# Altium integrated library Linear Technology PMIC-Switching Reg LTC1174-LTC3901.IntLib: 2647 symbols (part 103 of 310)
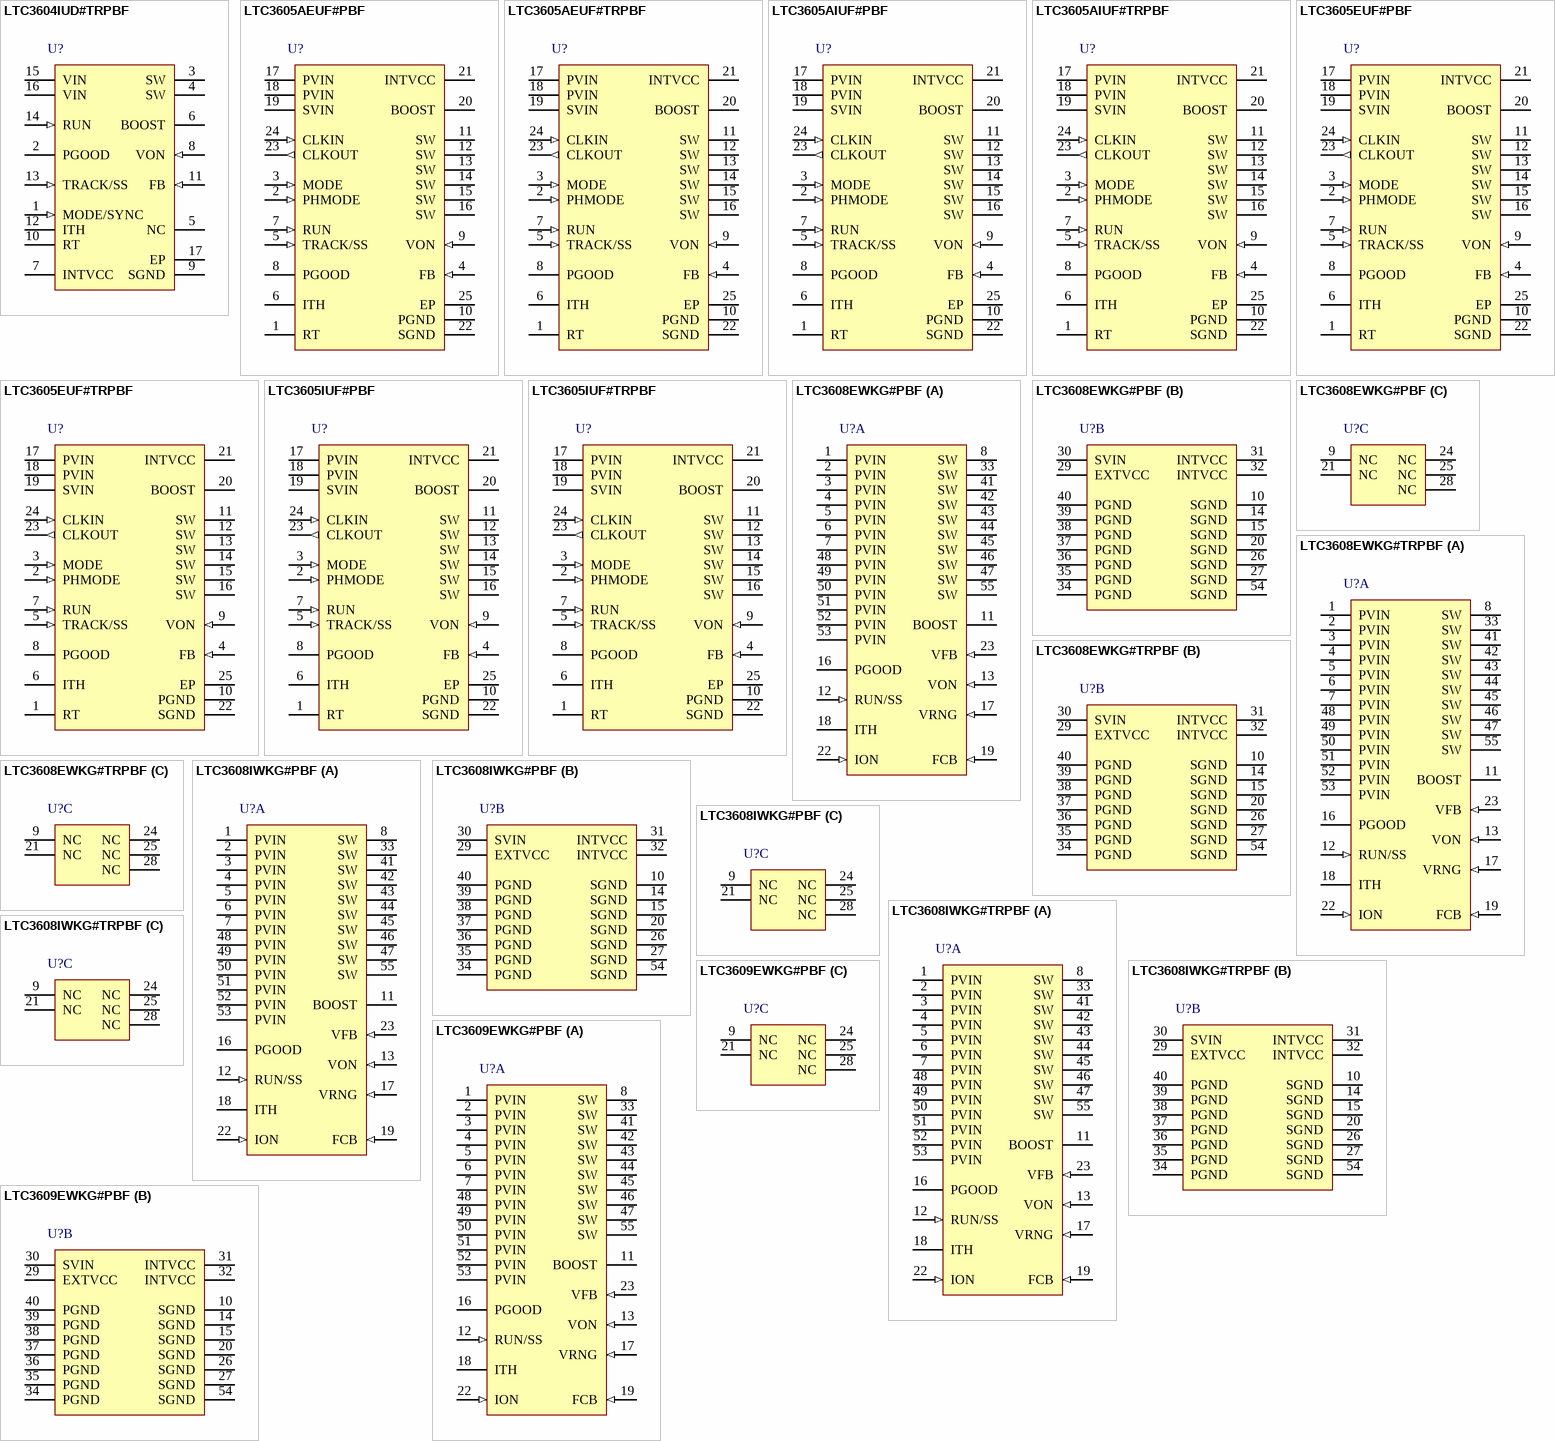
[diagram p174: symbols LTC3604IUD#TRPBF to LTC3609EWKG#PBF]

## LTC3605EUF#PBF
designator U?
5 A Synchronous Step-Down Regulator, 24-pin QFN (UF-24), -40 to 125 degC, Pb-Free; Manufacturer: Linear Technology; PartNumber: LTC3605EUF#PBF; Number of Outputs: 1; PackageReference: UF24; PackageDescription: 24-Pin Plastic QFN, Body 4 x 4 mm, Pitch 0.5 mm; Supplier 1: Digi-Key; Supplier Part Number 1: LTC3605EUF#PBF-ND; RoHS: TRUE; Code_JEDEC: MO-220
footprint LT-UF-24_N (QFN, 24-Leads, Body 4.1x4.1mm, Pitch 0.5mm, Thermal Pad 2.45x2.45mm, IPC Medium Density)
footprint LT-UF-24_L (QFN, 24-Leads, Body 4.1x4.1mm, Pitch 0.5mm, Thermal Pad 2.45x2.45mm, IPC High Density)
footprint LT-UF-24_M (QFN, 24-Leads, Body 4.1x4.1mm, Pitch 0.5mm, Thermal Pad 2.45x2.45mm, IPC Low Density)
pins: 1 RT "Oscillator Frequency Programming Pin. Connect an external resistor (between 200k to 40k) from RT to SGND to program the frequency from 800kHz to 4MHz. Since the synchronization range is +/-30% of set frequency, be sure that (See Datasheet)", 2 PHMODE (in) "Control Input to Phase Selector. Determines the phase relationship between internal oscillator and CLKOUT. Tie it to INTVCC for 2-phase operation, tie it to SGND for 3-phase operation, and tie it to INTVCC/2 for 4-phase (See Datasheet)", 3 MODE (in) "Operation Mode Select. Tie this pin to INTVCC to force continuous synchronous operation at all output loads. Tying it to SGND enables discontinuous mode operation at light loads. Tying this pin to INTVCC/2 shuts off the (See Datasheet)", 4 FB (in) "Output Feedback Voltage. Input to the error amplifier that compares the feedback voltage to the internal 0.6V reference voltage. This pin is normally connected to a resistive divider from the output voltage.", 5 TRACK/SS (in) "Output Tracking and Soft-Start Pin. Allows the user to control the rise time of the output voltage. Putting a voltage below 0.6V on this pin bypasses the internal reference input to the error amplifier, instead it servos the (See Datasheet)", 6 ITH "Error Amplifier Output and Switching Regulator Compensation Point. The current comparator’s trip threshold is linearly proportional to this voltage, whose normal range is from 0.3V to 1.8V. Tying this pin to INTVC(See Datasheet)", 7 RUN (in) "Run Control Input. Enables chip operation by tying RUN above 1.2V. Tying it below 1.1V shuts down the part.", 8 PGOOD (oc) "Output Power Good with Open-Drain Logic. PGOOD is pulled to ground when the voltage on the FB pin is not within +/-10% of the internal 0.6V reference.", 9 VON (in) "On-Time Voltage Input. Voltage trip point for the on-time comparator. Tying this pin to the output voltage makes the on-time proportional to VOUT and keeps the switching frequency constant at different VOUT. However, when (See Datasheet)", 10 PGND (power) "Power Ground. Return path of internal power MOSFETs. Connect this pin to the negative terminals of the input capacitor and output capacitor. The exposed pad must be soldered to the PCB ground for electrical contact and rated (See Datasheet)", 11 SW (power) "Switch Node Connection to External Inductor. Voltage swing of SW is from a diode voltage drop below ground to PVIN.", 12 SW (power) "Switch Node Connection to External Inductor. Voltage swing of SW is from a diode voltage drop below ground to PVIN.", 13 SW (power) "Switch Node Connection to External Inductor. Voltage swing of SW is from a diode voltage drop below ground to PVIN.", 14 SW (power) "Switch Node Connection to External Inductor. Voltage swing of SW is from a diode voltage drop below ground to PVIN.", 15 SW (power) "Switch Node Connection to External Inductor. Voltage swing of SW is from a diode voltage drop below ground to PVIN.", 16 SW (power) "Switch Node Connection to External Inductor. Voltage swing of SW is from a diode voltage drop below ground to PVIN.", 17 PVIN (power) "Power VIN. Input voltage to the onchip power MOSFETs.", 18 PVIN (power) "Power VIN. Input voltage to the onchip power MOSFETs.", 19 SVIN (power) "Signal VIN. Filtered input voltage to the on-chip 3.3V regulator. Connect a (1ohm to 10ohm) resistor between SVIN and PVIN and bypass to GND with a 0.1uF capacitor.", 20 BOOST "Boosted Floating Driver Supply for Internal Top Power MOSFET. The (+) terminal of the bootstrap capacitor connects here. This pin swings from a diode voltage drop below INTVCC up to PVIN + INTVCC.", 21 INTVCC (power) "Internal 3.3V Regulator Output. The internal power drivers and control circuits are powered from this voltage. Decouple this pin to power ground with a minimum of 1uF low ESR ceramic capacitor.", 22 SGND (power) "Signal Ground Connection.", 23 CLKOUT (out) "Output Clock Signal for PolyPhase Operation. The phase of CLKOUT with respect to CLKIN is determined by the state of the PHMODE pin. CLKOUT’s peak-to-peak amplitude is INTVCC to GND.", 24 CLKIN (in) "External Synchronization Input to Phase Detector. This pin is internally terminated to SGND with 20k. The phase-locked loop will force the top power NMOS’s turn on signal to be synchronized with the rising edge of th(See Datasheet)", 25 EP (power) "Power Ground. Return path of internal power MOSFETs. Connect this pin to the negative terminals of the input capacitor and output capacitor. The exposed pad must be soldered to the PCB ground for electrical contact and rated (See Datasheet)"

## LTC3605EUF#TRPBF
designator U?
15 V, 5 A Synchronous Step-Down Regulator, 24-pin QFN (UF-24), -40 to 125 degC, Pb-Free, Tape and Reel; Manufacturer: Linear Technology; PartNumber: LTC3605EUF#TRPBF; Number of Outputs: 1; PackageReference: UF24; PackageDescription: 24-Pin Plastic QFN, Body 4 x 4 mm, Pitch 0.5 mm; Supplier 1: Digi-Key; Supplier Part Number 1: LTC3605EUF#TRPBF-ND; RoHS: TRUE; Code_JEDEC: MO-220
footprint LT-UF-24_N (QFN, 24-Leads, Body 4.1x4.1mm, Pitch 0.5mm, Thermal Pad 2.45x2.45mm, IPC Medium Density)
footprint LT-UF-24_L (QFN, 24-Leads, Body 4.1x4.1mm, Pitch 0.5mm, Thermal Pad 2.45x2.45mm, IPC High Density)
footprint LT-UF-24_M (QFN, 24-Leads, Body 4.1x4.1mm, Pitch 0.5mm, Thermal Pad 2.45x2.45mm, IPC Low Density)
pins: 1 RT "Oscillator Frequency Programming Pin. Connect an external resistor (between 200k to 40k) from RT to SGND to program the frequency from 800kHz to 4MHz. Since the synchronization range is +/-30% of set frequency, be sure that (See Datasheet)", 2 PHMODE (in) "Control Input to Phase Selector. Determines the phase relationship between internal oscillator and CLKOUT. Tie it to INTVCC for 2-phase operation, tie it to SGND for 3-phase operation, and tie it to INTVCC/2 for 4-phase (See Datasheet)", 3 MODE (in) "Operation Mode Select. Tie this pin to INTVCC to force continuous synchronous operation at all output loads. Tying it to SGND enables discontinuous mode operation at light loads. Tying this pin to INTVCC/2 shuts off the (See Datasheet)", 4 FB (in) "Output Feedback Voltage. Input to the error amplifier that compares the feedback voltage to the internal 0.6V reference voltage. This pin is normally connected to a resistive divider from the output voltage.", 5 TRACK/SS (in) "Output Tracking and Soft-Start Pin. Allows the user to control the rise time of the output voltage. Putting a voltage below 0.6V on this pin bypasses the internal reference input to the error amplifier, instead it servos the (See Datasheet)", 6 ITH "Error Amplifier Output and Switching Regulator Compensation Point. The current comparator’s trip threshold is linearly proportional to this voltage, whose normal range is from 0.3V to 1.8V. Tying this pin to INTVC(See Datasheet)", 7 RUN (in) "Run Control Input. Enables chip operation by tying RUN above 1.2V. Tying it below 1.1V shuts down the part.", 8 PGOOD (oc) "Output Power Good with Open-Drain Logic. PGOOD is pulled to ground when the voltage on the FB pin is not within +/-10% of the internal 0.6V reference.", 9 VON (in) "On-Time Voltage Input. Voltage trip point for the on-time comparator. Tying this pin to the output voltage makes the on-time proportional to VOUT and keeps the switching frequency constant at different VOUT. However, when (See Datasheet)", 10 PGND (power) "Power Ground. Return path of internal power MOSFETs. Connect this pin to the negative terminals of the input capacitor and output capacitor. The exposed pad must be soldered to the PCB ground for electrical contact and rated (See Datasheet)", 11 SW (power) "Switch Node Connection to External Inductor. Voltage swing of SW is from a diode voltage drop below ground to PVIN.", 12 SW (power) "Switch Node Connection to External Inductor. Voltage swing of SW is from a diode voltage drop below ground to PVIN.", 13 SW (power) "Switch Node Connection to External Inductor. Voltage swing of SW is from a diode voltage drop below ground to PVIN.", 14 SW (power) "Switch Node Connection to External Inductor. Voltage swing of SW is from a diode voltage drop below ground to PVIN.", 15 SW (power) "Switch Node Connection to External Inductor. Voltage swing of SW is from a diode voltage drop below ground to PVIN.", 16 SW (power) "Switch Node Connection to External Inductor. Voltage swing of SW is from a diode voltage drop below ground to PVIN.", 17 PVIN (power) "Power VIN. Input voltage to the onchip power MOSFETs.", 18 PVIN (power) "Power VIN. Input voltage to the onchip power MOSFETs.", 19 SVIN (power) "Signal VIN. Filtered input voltage to the on-chip 3.3V regulator. Connect a (1ohm to 10ohm) resistor between SVIN and PVIN and bypass to GND with a 0.1uF capacitor.", 20 BOOST "Boosted Floating Driver Supply for Internal Top Power MOSFET. The (+) terminal of the bootstrap capacitor connects here. This pin swings from a diode voltage drop below INTVCC up to PVIN + INTVCC.", 21 INTVCC (power) "Internal 3.3V Regulator Output. The internal power drivers and control circuits are powered from this voltage. Decouple this pin to power ground with a minimum of 1uF low ESR ceramic capacitor.", 22 SGND (power) "Signal Ground Connection.", 23 CLKOUT (out) "Output Clock Signal for PolyPhase Operation. The phase of CLKOUT with respect to CLKIN is determined by the state of the PHMODE pin. CLKOUT’s peak-to-peak amplitude is INTVCC to GND.", 24 CLKIN (in) "External Synchronization Input to Phase Detector. This pin is internally terminated to SGND with 20k. The phase-locked loop will force the top power NMOS’s turn on signal to be synchronized with the rising edge of th(See Datasheet)", 25 EP (power) "Power Ground. Return path of internal power MOSFETs. Connect this pin to the negative terminals of the input capacitor and output capacitor. The exposed pad must be soldered to the PCB ground for electrical contact and rated (See Datasheet)"

## LTC3605IUF#PBF
designator U?
15 V, 5 A Synchronous Step-Down Regulator, 24-pin QFN (UF-24), -40 to 125 degC, Pb-Free; Manufacturer: Linear Technology; PartNumber: LTC3605IUF#PBF; Number of Outputs: 1; PackageReference: UF24; PackageDescription: 24-Pin Plastic QFN, Body 4 x 4 mm, Pitch 0.5 mm; Supplier 1: Digi-Key; Supplier Part Number 1: LTC3605IUF#PBF-ND; RoHS: TRUE; Code_JEDEC: MO-220
footprint LT-UF-24_N (QFN, 24-Leads, Body 4.1x4.1mm, Pitch 0.5mm, Thermal Pad 2.45x2.45mm, IPC Medium Density)
footprint LT-UF-24_L (QFN, 24-Leads, Body 4.1x4.1mm, Pitch 0.5mm, Thermal Pad 2.45x2.45mm, IPC High Density)
footprint LT-UF-24_M (QFN, 24-Leads, Body 4.1x4.1mm, Pitch 0.5mm, Thermal Pad 2.45x2.45mm, IPC Low Density)
pins: 1 RT "Oscillator Frequency Programming Pin. Connect an external resistor (between 200k to 40k) from RT to SGND to program the frequency from 800kHz to 4MHz. Since the synchronization range is +/-30% of set frequency, be sure that (See Datasheet)", 2 PHMODE (in) "Control Input to Phase Selector. Determines the phase relationship between internal oscillator and CLKOUT. Tie it to INTVCC for 2-phase operation, tie it to SGND for 3-phase operation, and tie it to INTVCC/2 for 4-phase (See Datasheet)", 3 MODE (in) "Operation Mode Select. Tie this pin to INTVCC to force continuous synchronous operation at all output loads. Tying it to SGND enables discontinuous mode operation at light loads. Tying this pin to INTVCC/2 shuts off the (See Datasheet)", 4 FB (in) "Output Feedback Voltage. Input to the error amplifier that compares the feedback voltage to the internal 0.6V reference voltage. This pin is normally connected to a resistive divider from the output voltage.", 5 TRACK/SS (in) "Output Tracking and Soft-Start Pin. Allows the user to control the rise time of the output voltage. Putting a voltage below 0.6V on this pin bypasses the internal reference input to the error amplifier, instead it servos the (See Datasheet)", 6 ITH "Error Amplifier Output and Switching Regulator Compensation Point. The current comparator’s trip threshold is linearly proportional to this voltage, whose normal range is from 0.3V to 1.8V. Tying this pin to INTVC(See Datasheet)", 7 RUN (in) "Run Control Input. Enables chip operation by tying RUN above 1.2V. Tying it below 1.1V shuts down the part.", 8 PGOOD (oc) "Output Power Good with Open-Drain Logic. PGOOD is pulled to ground when the voltage on the FB pin is not within +/-10% of the internal 0.6V reference.", 9 VON (in) "On-Time Voltage Input. Voltage trip point for the on-time comparator. Tying this pin to the output voltage makes the on-time proportional to VOUT and keeps the switching frequency constant at different VOUT. However, when (See Datasheet)", 10 PGND (power) "Power Ground. Return path of internal power MOSFETs. Connect this pin to the negative terminals of the input capacitor and output capacitor. The exposed pad must be soldered to the PCB ground for electrical contact and rated (See Datasheet)", 11 SW (power) "Switch Node Connection to External Inductor. Voltage swing of SW is from a diode voltage drop below ground to PVIN.", 12 SW (power) "Switch Node Connection to External Inductor. Voltage swing of SW is from a diode voltage drop below ground to PVIN.", 13 SW (power) "Switch Node Connection to External Inductor. Voltage swing of SW is from a diode voltage drop below ground to PVIN.", 14 SW (power) "Switch Node Connection to External Inductor. Voltage swing of SW is from a diode voltage drop below ground to PVIN.", 15 SW (power) "Switch Node Connection to External Inductor. Voltage swing of SW is from a diode voltage drop below ground to PVIN.", 16 SW (power) "Switch Node Connection to External Inductor. Voltage swing of SW is from a diode voltage drop below ground to PVIN.", 17 PVIN (power) "Power VIN. Input voltage to the onchip power MOSFETs.", 18 PVIN (power) "Power VIN. Input voltage to the onchip power MOSFETs.", 19 SVIN (power) "Signal VIN. Filtered input voltage to the on-chip 3.3V regulator. Connect a (1ohm to 10ohm) resistor between SVIN and PVIN and bypass to GND with a 0.1uF capacitor.", 20 BOOST "Boosted Floating Driver Supply for Internal Top Power MOSFET. The (+) terminal of the bootstrap capacitor connects here. This pin swings from a diode voltage drop below INTVCC up to PVIN + INTVCC.", 21 INTVCC (power) "Internal 3.3V Regulator Output. The internal power drivers and control circuits are powered from this voltage. Decouple this pin to power ground with a minimum of 1uF low ESR ceramic capacitor.", 22 SGND (power) "Signal Ground Connection.", 23 CLKOUT (out) "Output Clock Signal for PolyPhase Operation. The phase of CLKOUT with respect to CLKIN is determined by the state of the PHMODE pin. CLKOUT’s peak-to-peak amplitude is INTVCC to GND.", 24 CLKIN (in) "External Synchronization Input to Phase Detector. This pin is internally terminated to SGND with 20k. The phase-locked loop will force the top power NMOS’s turn on signal to be synchronized with the rising edge of th(See Datasheet)", 25 EP (power) "Power Ground. Return path of internal power MOSFETs. Connect this pin to the negative terminals of the input capacitor and output capacitor. The exposed pad must be soldered to the PCB ground for electrical contact and rated (See Datasheet)"

## LTC3605IUF#TRPBF
designator U?
15 V, 5 A Synchronous Step-Down Regulator, 24-pin QFN (UF-24), -40 to 125 degC, Pb-Free, Tape and Reel; Manufacturer: Linear Technology; PartNumber: LTC3605IUF#TRPBF; Number of Outputs: 1; PackageReference: UF24; PackageDescription: 24-Pin Plastic QFN, Body 4 x 4 mm, Pitch 0.5 mm; Supplier 1: Digi-Key; Supplier Part Number 1: LTC3605IUF#TRPBF-ND; RoHS: TRUE; Code_JEDEC: MO-220
footprint LT-UF-24_N (QFN, 24-Leads, Body 4.1x4.1mm, Pitch 0.5mm, Thermal Pad 2.45x2.45mm, IPC Medium Density)
footprint LT-UF-24_L (QFN, 24-Leads, Body 4.1x4.1mm, Pitch 0.5mm, Thermal Pad 2.45x2.45mm, IPC High Density)
footprint LT-UF-24_M (QFN, 24-Leads, Body 4.1x4.1mm, Pitch 0.5mm, Thermal Pad 2.45x2.45mm, IPC Low Density)
pins: 1 RT "Oscillator Frequency Programming Pin. Connect an external resistor (between 200k to 40k) from RT to SGND to program the frequency from 800kHz to 4MHz. Since the synchronization range is +/-30% of set frequency, be sure that (See Datasheet)", 2 PHMODE (in) "Control Input to Phase Selector. Determines the phase relationship between internal oscillator and CLKOUT. Tie it to INTVCC for 2-phase operation, tie it to SGND for 3-phase operation, and tie it to INTVCC/2 for 4-phase (See Datasheet)", 3 MODE (in) "Operation Mode Select. Tie this pin to INTVCC to force continuous synchronous operation at all output loads. Tying it to SGND enables discontinuous mode operation at light loads. Tying this pin to INTVCC/2 shuts off the (See Datasheet)", 4 FB (in) "Output Feedback Voltage. Input to the error amplifier that compares the feedback voltage to the internal 0.6V reference voltage. This pin is normally connected to a resistive divider from the output voltage.", 5 TRACK/SS (in) "Output Tracking and Soft-Start Pin. Allows the user to control the rise time of the output voltage. Putting a voltage below 0.6V on this pin bypasses the internal reference input to the error amplifier, instead it servos the (See Datasheet)", 6 ITH "Error Amplifier Output and Switching Regulator Compensation Point. The current comparator’s trip threshold is linearly proportional to this voltage, whose normal range is from 0.3V to 1.8V. Tying this pin to INTVC(See Datasheet)", 7 RUN (in) "Run Control Input. Enables chip operation by tying RUN above 1.2V. Tying it below 1.1V shuts down the part.", 8 PGOOD (oc) "Output Power Good with Open-Drain Logic. PGOOD is pulled to ground when the voltage on the FB pin is not within +/-10% of the internal 0.6V reference.", 9 VON (in) "On-Time Voltage Input. Voltage trip point for the on-time comparator. Tying this pin to the output voltage makes the on-time proportional to VOUT and keeps the switching frequency constant at different VOUT. However, when (See Datasheet)", 10 PGND (power) "Power Ground. Return path of internal power MOSFETs. Connect this pin to the negative terminals of the input capacitor and output capacitor. The exposed pad must be soldered to the PCB ground for electrical contact and rated (See Datasheet)", 11 SW (power) "Switch Node Connection to External Inductor. Voltage swing of SW is from a diode voltage drop below ground to PVIN.", 12 SW (power) "Switch Node Connection to External Inductor. Voltage swing of SW is from a diode voltage drop below ground to PVIN.", 13 SW (power) "Switch Node Connection to External Inductor. Voltage swing of SW is from a diode voltage drop below ground to PVIN.", 14 SW (power) "Switch Node Connection to External Inductor. Voltage swing of SW is from a diode voltage drop below ground to PVIN.", 15 SW (power) "Switch Node Connection to External Inductor. Voltage swing of SW is from a diode voltage drop below ground to PVIN.", 16 SW (power) "Switch Node Connection to External Inductor. Voltage swing of SW is from a diode voltage drop below ground to PVIN.", 17 PVIN (power) "Power VIN. Input voltage to the onchip power MOSFETs.", 18 PVIN (power) "Power VIN. Input voltage to the onchip power MOSFETs.", 19 SVIN (power) "Signal VIN. Filtered input voltage to the on-chip 3.3V regulator. Connect a (1ohm to 10ohm) resistor between SVIN and PVIN and bypass to GND with a 0.1uF capacitor.", 20 BOOST "Boosted Floating Driver Supply for Internal Top Power MOSFET. The (+) terminal of the bootstrap capacitor connects here. This pin swings from a diode voltage drop below INTVCC up to PVIN + INTVCC.", 21 INTVCC (power) "Internal 3.3V Regulator Output. The internal power drivers and control circuits are powered from this voltage. Decouple this pin to power ground with a minimum of 1uF low ESR ceramic capacitor.", 22 SGND (power) "Signal Ground Connection.", 23 CLKOUT (out) "Output Clock Signal for PolyPhase Operation. The phase of CLKOUT with respect to CLKIN is determined by the state of the PHMODE pin. CLKOUT’s peak-to-peak amplitude is INTVCC to GND.", 24 CLKIN (in) "External Synchronization Input to Phase Detector. This pin is internally terminated to SGND with 20k. The phase-locked loop will force the top power NMOS’s turn on signal to be synchronized with the rising edge of th(See Datasheet)", 25 EP (power) "Power Ground. Return path of internal power MOSFETs. Connect this pin to the negative terminals of the input capacitor and output capacitor. The exposed pad must be soldered to the PCB ground for electrical contact and rated (See Datasheet)"

## LTC3608EWKG#PBF
designator U?
8 A Monolithic Synchronous Step-Down DC/DC Converter, 52-pin QFN (WKG-52-MPAD), -40 to 125 degC, Pb-Free; Manufacturer: Linear Technology; PartNumber: LTC3608EWKG#PBF; Number of Outputs: 1; PackageReference: WKG-52; PackageDescription: 52-Pin QFN Multipad, Body 8 x 7 mm, Pitch 0.5 mm; Supplier 1: Digi-Key; Supplier Part Number 1: LTC3608EWKG#PBF-ND; RoHS: TRUE
footprint LT-WKG-52-MPAD_V (QFN, 52-Leads, Body 8x7mm, Pitch 0.5mm)
part A pins: 1 PVIN (power) "Main Input Supply. Decouple this pin to power PGND with the input capacitance, CIN.", 2 PVIN (power) "Main Input Supply. Decouple this pin to power PGND with the input capacitance, CIN.", 3 PVIN (power) "Main Input Supply. Decouple this pin to power PGND with the input capacitance, CIN.", 4 PVIN (power) "Main Input Supply. Decouple this pin to power PGND with the input capacitance, CIN.", 5 PVIN (power) "Main Input Supply. Decouple this pin to power PGND with the input capacitance, CIN.", 6 PVIN (power) "Main Input Supply. Decouple this pin to power PGND with the input capacitance, CIN.", 7 PVIN (power) "Main Input Supply. Decouple this pin to power PGND with the input capacitance, CIN.", 8 SW (power) "Switch Node Connection to the Inductor. The (-) terminal of the bootstrap capacitor, CB, also connects here. This pin swings from a diode voltage drop below ground up to VIN.", 11 BOOST "Boosted Floating Driver Supply. The (+) terminal of the bootstrap capacitor, CB, connects here. This pin swings from a diode voltage drop below INTVCC up to VIN + INTVCC.", 12 RUN/SS (in) "Run Control and Soft-Start Input. A capacitor to ground at this pin sets the ramp time to full output current (approximately 3s/uF) and the time delay for overcurrent latchoff (see Applications Information). Forcing this pin (See Datasheet)", 13 VON (in) "On-Time Voltage Input. Voltage trip point for the on-time comparator. Tying this pin to the output voltage or an external resistive divider from the output makes the on-time proportional to VOUT. The comparator input (See Datasheet)", 16 PGOOD (oc) "Power Good Output. Open-drain logic output that is pulled to ground when the output voltage is not within +/- 10% of the regulation point.", 17 VRNG (in) "Current Limit Range Input.", 18 ITH "Current Control Threshold and Error Amplifier Compensation Point. The current comparator threshold increases with this control voltage. The voltage ranges from 0V to 2.4V with 0.8V corresponding to zero sense voltage (zero (See Datasheet)", 19 FCB (in) "Forced Continuous Input. Tie this pin to ground to force continuous synchronous operation at low load, to INTVCC to enable discontinuous mode operation at low load or to a resistive divider from a secondary output when using (See Datasheet)", 22 ION (in) "On-Time Current Input. Tie a resistor from VIN to this pin to set the one-shot timer current and thereby set the switching frequency.", 23 VFB (in) "Error Amplifier Feedback Input. This pin connects the error amplifier input to an external resistive divider from VOUT.", 33 SW (power) "Switch Node Connection to the Inductor. The (-) terminal of the bootstrap capacitor, CB, also connects here. This pin swings from a diode voltage drop below ground up to VIN.", 41 SW (power) "Switch Node Connection to the Inductor. The (-) terminal of the bootstrap capacitor, CB, also connects here. This pin swings from a diode voltage drop below ground up to VIN.", 42 SW (power) "Switch Node Connection to the Inductor. The (-) terminal of the bootstrap capacitor, CB, also connects here. This pin swings from a diode voltage drop below ground up to VIN.", 43 SW (power) "Switch Node Connection to the Inductor. The (-) terminal of the bootstrap capacitor, CB, also connects here. This pin swings from a diode voltage drop below ground up to VIN.", 44 SW (power) "Switch Node Connection to the Inductor. The (-) terminal of the bootstrap capacitor, CB, also connects here. This pin swings from a diode voltage drop below ground up to VIN.", 45 SW (power) "Switch Node Connection to the Inductor. The (-) terminal of the bootstrap capacitor, CB, also connects here. This pin swings from a diode voltage drop below ground up to VIN.", 46 SW (power) "Switch Node Connection to the Inductor. The (-) terminal of the bootstrap capacitor, CB, also connects here. This pin swings from a diode voltage drop below ground up to VIN.", 47 SW (power) "Switch Node Connection to the Inductor. The (-) terminal of the bootstrap capacitor, CB, also connects here. This pin swings from a diode voltage drop below ground up to VIN.", 48 PVIN (power) "Main Input Supply. Decouple this pin to power PGND with the input capacitance, CIN.", 49 PVIN (power) "Main Input Supply. Decouple this pin to power PGND with the input capacitance, CIN.", 50 PVIN (power) "Main Input Supply. Decouple this pin to power PGND with the input capacitance, CIN.", 51 PVIN (power) "Main Input Supply. Decouple this pin to power PGND with the input capacitance, CIN.", 52 PVIN (power) "Main Input Supply. Decouple this pin to power PGND with the input capacitance, CIN.", 53 PVIN (power) "Main Input Supply. Decouple this pin to power PGND with the input capacitance, CIN.", 55 SW (power) "Switch Node Connection to the Inductor. The (-) terminal of the bootstrap capacitor, CB, also connects here. This pin swings from a diode voltage drop below ground up to VIN."
part B pins: 10 SGND (power) "Signal Ground. All small-signal components and compensation components should connect to this ground, which in turn connects to PGND at one point.", 14 SGND (power) "Signal Ground. All small-signal components and compensation components should connect to this ground, which in turn connects to PGND at one point.", 15 SGND (power) "Signal Ground. All small-signal components and compensation components should connect to this ground, which in turn connects to PGND at one point.", 20 SGND (power) "Signal Ground. All small-signal components and compensation components should connect to this ground, which in turn connects to PGND at one point.", 26 SGND (power) "Signal Ground. All small-signal components and compensation components should connect to this ground, which in turn connects to PGND at one point.", 27 SGND (power) "Signal Ground. All small-signal components and compensation components should connect to this ground, which in turn connects to PGND at one point.", 29 EXTVCC (power) "External VCC Input. When EXTVCC exceeds 4.7V, an internal switch connects this pin to INTVCC and shuts down the internal regulator so that controller and gate drive power is drawn from EXTVCC. Do not exceed 7V at this pin (See Datasheet)", 30 SVIN (power) "Supply Pin for Internal PWM Controller.", 31 INTVCC (power) "Internal 5V Regulator Output. The driver and control circuits are powered from this voltage. Decouple this pin to power ground with a minimum of 4.7uF low ESR tantalum or ceramic capacitor.", 32 INTVCC (power) "Internal 5V Regulator Output. The driver and control circuits are powered from this voltage. Decouple this pin to power ground with a minimum of 4.7uF low ESR tantalum or ceramic capacitor.", 34 PGND (power) "Power Ground. Connect this pin closely to the (-) terminal of CVCC and the (-) terminal of CIN.", 35 PGND (power) "Power Ground. Connect this pin closely to the (-) terminal of CVCC and the (-) terminal of CIN.", 36 PGND (power) "Power Ground. Connect this pin closely to the (-) terminal of CVCC and the (-) terminal of CIN.", 37 PGND (power) "Power Ground. Connect this pin closely to the (-) terminal of CVCC and the (-) terminal of CIN.", 38 PGND (power) "Power Ground. Connect this pin closely to the (-) terminal of CVCC and the (-) terminal of CIN.", 39 PGND (power) "Power Ground. Connect this pin closely to the (-) terminal of CVCC and the (-) terminal of CIN.", 40 PGND (power) "Power Ground. Connect this pin closely to the (-) terminal of CVCC and the (-) terminal of CIN.", 54 SGND (power) "Signal Ground. All small-signal components and compensation components should connect to this ground, which in turn connects to PGND at one point."
part C pins: 9 NC "No Connection.", 21 NC "No Connection.", 24 NC "No Connection.", 25 NC "No Connection.", 28 NC "No Connection."

## LTC3608EWKG#TRPBF
designator U?
8 A Monolithic Synchronous Step-Down DC/DC Converter, 52-pin QFN (WKG-52-MPAD), -40 to 125 degC, Pb-Free, Tape and Reel; Manufacturer: Linear Technology; PartNumber: LTC3608EWKG#TRPBF; Number of Outputs: 1; PackageReference: WKG-52; PackageDescription: 52-Pin QFN Multipad, Body 8 x 7 mm, Pitch 0.5 mm; Supplier 1: Digi-Key; Supplier Part Number 1: LTC3608EWKG#TRPBF-ND; RoHS: TRUE
footprint LT-WKG-52-MPAD_V (QFN, 52-Leads, Body 8x7mm, Pitch 0.5mm)
part A pins: 1 PVIN (power) "Main Input Supply. Decouple this pin to power PGND with the input capacitance, CIN.", 2 PVIN (power) "Main Input Supply. Decouple this pin to power PGND with the input capacitance, CIN.", 3 PVIN (power) "Main Input Supply. Decouple this pin to power PGND with the input capacitance, CIN.", 4 PVIN (power) "Main Input Supply. Decouple this pin to power PGND with the input capacitance, CIN.", 5 PVIN (power) "Main Input Supply. Decouple this pin to power PGND with the input capacitance, CIN.", 6 PVIN (power) "Main Input Supply. Decouple this pin to power PGND with the input capacitance, CIN.", 7 PVIN (power) "Main Input Supply. Decouple this pin to power PGND with the input capacitance, CIN.", 8 SW (power) "Switch Node Connection to the Inductor. The (-) terminal of the bootstrap capacitor, CB, also connects here. This pin swings from a diode voltage drop below ground up to VIN.", 11 BOOST "Boosted Floating Driver Supply. The (+) terminal of the bootstrap capacitor, CB, connects here. This pin swings from a diode voltage drop below INTVCC up to VIN + INTVCC.", 12 RUN/SS (in) "Run Control and Soft-Start Input. A capacitor to ground at this pin sets the ramp time to full output current (approximately 3s/uF) and the time delay for overcurrent latchoff (see Applications Information). Forcing this pin (See Datasheet)", 13 VON (in) "On-Time Voltage Input. Voltage trip point for the on-time comparator. Tying this pin to the output voltage or an external resistive divider from the output makes the on-time proportional to VOUT. The comparator input (See Datasheet)", 16 PGOOD (oc) "Power Good Output. Open-drain logic output that is pulled to ground when the output voltage is not within +/- 10% of the regulation point.", 17 VRNG (in) "Current Limit Range Input.", 18 ITH "Current Control Threshold and Error Amplifier Compensation Point. The current comparator threshold increases with this control voltage. The voltage ranges from 0V to 2.4V with 0.8V corresponding to zero sense voltage (zero (See Datasheet)", 19 FCB (in) "Forced Continuous Input. Tie this pin to ground to force continuous synchronous operation at low load, to INTVCC to enable discontinuous mode operation at low load or to a resistive divider from a secondary output when using (See Datasheet)", 22 ION (in) "On-Time Current Input. Tie a resistor from VIN to this pin to set the one-shot timer current and thereby set the switching frequency.", 23 VFB (in) "Error Amplifier Feedback Input. This pin connects the error amplifier input to an external resistive divider from VOUT.", 33 SW (power) "Switch Node Connection to the Inductor. The (-) terminal of the bootstrap capacitor, CB, also connects here. This pin swings from a diode voltage drop below ground up to VIN.", 41 SW (power) "Switch Node Connection to the Inductor. The (-) terminal of the bootstrap capacitor, CB, also connects here. This pin swings from a diode voltage drop below ground up to VIN.", 42 SW (power) "Switch Node Connection to the Inductor. The (-) terminal of the bootstrap capacitor, CB, also connects here. This pin swings from a diode voltage drop below ground up to VIN.", 43 SW (power) "Switch Node Connection to the Inductor. The (-) terminal of the bootstrap capacitor, CB, also connects here. This pin swings from a diode voltage drop below ground up to VIN.", 44 SW (power) "Switch Node Connection to the Inductor. The (-) terminal of the bootstrap capacitor, CB, also connects here. This pin swings from a diode voltage drop below ground up to VIN.", 45 SW (power) "Switch Node Connection to the Inductor. The (-) terminal of the bootstrap capacitor, CB, also connects here. This pin swings from a diode voltage drop below ground up to VIN.", 46 SW (power) "Switch Node Connection to the Inductor. The (-) terminal of the bootstrap capacitor, CB, also connects here. This pin swings from a diode voltage drop below ground up to VIN.", 47 SW (power) "Switch Node Connection to the Inductor. The (-) terminal of the bootstrap capacitor, CB, also connects here. This pin swings from a diode voltage drop below ground up to VIN.", 48 PVIN (power) "Main Input Supply. Decouple this pin to power PGND with the input capacitance, CIN.", 49 PVIN (power) "Main Input Supply. Decouple this pin to power PGND with the input capacitance, CIN.", 50 PVIN (power) "Main Input Supply. Decouple this pin to power PGND with the input capacitance, CIN.", 51 PVIN (power) "Main Input Supply. Decouple this pin to power PGND with the input capacitance, CIN.", 52 PVIN (power) "Main Input Supply. Decouple this pin to power PGND with the input capacitance, CIN.", 53 PVIN (power) "Main Input Supply. Decouple this pin to power PGND with the input capacitance, CIN.", 55 SW (power) "Switch Node Connection to the Inductor. The (-) terminal of the bootstrap capacitor, CB, also connects here. This pin swings from a diode voltage drop below ground up to VIN."
part B pins: 10 SGND (power) "Signal Ground. All small-signal components and compensation components should connect to this ground, which in turn connects to PGND at one point.", 14 SGND (power) "Signal Ground. All small-signal components and compensation components should connect to this ground, which in turn connects to PGND at one point.", 15 SGND (power) "Signal Ground. All small-signal components and compensation components should connect to this ground, which in turn connects to PGND at one point.", 20 SGND (power) "Signal Ground. All small-signal components and compensation components should connect to this ground, which in turn connects to PGND at one point.", 26 SGND (power) "Signal Ground. All small-signal components and compensation components should connect to this ground, which in turn connects to PGND at one point.", 27 SGND (power) "Signal Ground. All small-signal components and compensation components should connect to this ground, which in turn connects to PGND at one point.", 29 EXTVCC (power) "External VCC Input. When EXTVCC exceeds 4.7V, an internal switch connects this pin to INTVCC and shuts down the internal regulator so that controller and gate drive power is drawn from EXTVCC. Do not exceed 7V at this pin (See Datasheet)", 30 SVIN (power) "Supply Pin for Internal PWM Controller.", 31 INTVCC (power) "Internal 5V Regulator Output. The driver and control circuits are powered from this voltage. Decouple this pin to power ground with a minimum of 4.7uF low ESR tantalum or ceramic capacitor.", 32 INTVCC (power) "Internal 5V Regulator Output. The driver and control circuits are powered from this voltage. Decouple this pin to power ground with a minimum of 4.7uF low ESR tantalum or ceramic capacitor.", 34 PGND (power) "Power Ground. Connect this pin closely to the (-) terminal of CVCC and the (-) terminal of CIN.", 35 PGND (power) "Power Ground. Connect this pin closely to the (-) terminal of CVCC and the (-) terminal of CIN.", 36 PGND (power) "Power Ground. Connect this pin closely to the (-) terminal of CVCC and the (-) terminal of CIN.", 37 PGND (power) "Power Ground. Connect this pin closely to the (-) terminal of CVCC and the (-) terminal of CIN.", 38 PGND (power) "Power Ground. Connect this pin closely to the (-) terminal of CVCC and the (-) terminal of CIN.", 39 PGND (power) "Power Ground. Connect this pin closely to the (-) terminal of CVCC and the (-) terminal of CIN.", 40 PGND (power) "Power Ground. Connect this pin closely to the (-) terminal of CVCC and the (-) terminal of CIN.", 54 SGND (power) "Signal Ground. All small-signal components and compensation components should connect to this ground, which in turn connects to PGND at one point."
part C pins: 9 NC "No Connection.", 21 NC "No Connection.", 24 NC "No Connection.", 25 NC "No Connection.", 28 NC "No Connection."

## LTC3608IWKG#PBF
designator U?
8 A Monolithic Synchronous Step-Down DC/DC Converter, 52-pin QFN (WKG-52-MPAD), -40 to 125 degC, Pb-Free; Manufacturer: Linear Technology; PartNumber: LTC3608IWKG#PBF; Number of Outputs: 1; PackageReference: WKG-52; PackageDescription: 52-Pin QFN Multipad, Body 8 x 7 mm, Pitch 0.5 mm; Supplier 1: Digi-Key; Supplier Part Number 1: LTC3608IWKG#PBF-ND; RoHS: TRUE
footprint LT-WKG-52-MPAD_V (QFN, 52-Leads, Body 8x7mm, Pitch 0.5mm)
part A pins: 1 PVIN (power) "Main Input Supply. Decouple this pin to power PGND with the input capacitance, CIN.", 2 PVIN (power) "Main Input Supply. Decouple this pin to power PGND with the input capacitance, CIN.", 3 PVIN (power) "Main Input Supply. Decouple this pin to power PGND with the input capacitance, CIN.", 4 PVIN (power) "Main Input Supply. Decouple this pin to power PGND with the input capacitance, CIN.", 5 PVIN (power) "Main Input Supply. Decouple this pin to power PGND with the input capacitance, CIN.", 6 PVIN (power) "Main Input Supply. Decouple this pin to power PGND with the input capacitance, CIN.", 7 PVIN (power) "Main Input Supply. Decouple this pin to power PGND with the input capacitance, CIN.", 8 SW (power) "Switch Node Connection to the Inductor. The (-) terminal of the bootstrap capacitor, CB, also connects here. This pin swings from a diode voltage drop below ground up to VIN.", 11 BOOST "Boosted Floating Driver Supply. The (+) terminal of the bootstrap capacitor, CB, connects here. This pin swings from a diode voltage drop below INTVCC up to VIN + INTVCC.", 12 RUN/SS (in) "Run Control and Soft-Start Input. A capacitor to ground at this pin sets the ramp time to full output current (approximately 3s/uF) and the time delay for overcurrent latchoff (see Applications Information). Forcing this pin (See Datasheet)", 13 VON (in) "On-Time Voltage Input. Voltage trip point for the on-time comparator. Tying this pin to the output voltage or an external resistive divider from the output makes the on-time proportional to VOUT. The comparator input (See Datasheet)", 16 PGOOD (oc) "Power Good Output. Open-drain logic output that is pulled to ground when the output voltage is not within +/- 10% of the regulation point.", 17 VRNG (in) "Current Limit Range Input.", 18 ITH "Current Control Threshold and Error Amplifier Compensation Point. The current comparator threshold increases with this control voltage. The voltage ranges from 0V to 2.4V with 0.8V corresponding to zero sense voltage (zero (See Datasheet)", 19 FCB (in) "Forced Continuous Input. Tie this pin to ground to force continuous synchronous operation at low load, to INTVCC to enable discontinuous mode operation at low load or to a resistive divider from a secondary output when using (See Datasheet)", 22 ION (in) "On-Time Current Input. Tie a resistor from VIN to this pin to set the one-shot timer current and thereby set the switching frequency.", 23 VFB (in) "Error Amplifier Feedback Input. This pin connects the error amplifier input to an external resistive divider from VOUT.", 33 SW (power) "Switch Node Connection to the Inductor. The (-) terminal of the bootstrap capacitor, CB, also connects here. This pin swings from a diode voltage drop below ground up to VIN.", 41 SW (power) "Switch Node Connection to the Inductor. The (-) terminal of the bootstrap capacitor, CB, also connects here. This pin swings from a diode voltage drop below ground up to VIN.", 42 SW (power) "Switch Node Connection to the Inductor. The (-) terminal of the bootstrap capacitor, CB, also connects here. This pin swings from a diode voltage drop below ground up to VIN.", 43 SW (power) "Switch Node Connection to the Inductor. The (-) terminal of the bootstrap capacitor, CB, also connects here. This pin swings from a diode voltage drop below ground up to VIN.", 44 SW (power) "Switch Node Connection to the Inductor. The (-) terminal of the bootstrap capacitor, CB, also connects here. This pin swings from a diode voltage drop below ground up to VIN.", 45 SW (power) "Switch Node Connection to the Inductor. The (-) terminal of the bootstrap capacitor, CB, also connects here. This pin swings from a diode voltage drop below ground up to VIN.", 46 SW (power) "Switch Node Connection to the Inductor. The (-) terminal of the bootstrap capacitor, CB, also connects here. This pin swings from a diode voltage drop below ground up to VIN.", 47 SW (power) "Switch Node Connection to the Inductor. The (-) terminal of the bootstrap capacitor, CB, also connects here. This pin swings from a diode voltage drop below ground up to VIN.", 48 PVIN (power) "Main Input Supply. Decouple this pin to power PGND with the input capacitance, CIN.", 49 PVIN (power) "Main Input Supply. Decouple this pin to power PGND with the input capacitance, CIN.", 50 PVIN (power) "Main Input Supply. Decouple this pin to power PGND with the input capacitance, CIN.", 51 PVIN (power) "Main Input Supply. Decouple this pin to power PGND with the input capacitance, CIN.", 52 PVIN (power) "Main Input Supply. Decouple this pin to power PGND with the input capacitance, CIN.", 53 PVIN (power) "Main Input Supply. Decouple this pin to power PGND with the input capacitance, CIN.", 55 SW (power) "Switch Node Connection to the Inductor. The (-) terminal of the bootstrap capacitor, CB, also connects here. This pin swings from a diode voltage drop below ground up to VIN."
part B pins: 10 SGND (power) "Signal Ground. All small-signal components and compensation components should connect to this ground, which in turn connects to PGND at one point.", 14 SGND (power) "Signal Ground. All small-signal components and compensation components should connect to this ground, which in turn connects to PGND at one point.", 15 SGND (power) "Signal Ground. All small-signal components and compensation components should connect to this ground, which in turn connects to PGND at one point.", 20 SGND (power) "Signal Ground. All small-signal components and compensation components should connect to this ground, which in turn connects to PGND at one point.", 26 SGND (power) "Signal Ground. All small-signal components and compensation components should connect to this ground, which in turn connects to PGND at one point.", 27 SGND (power) "Signal Ground. All small-signal components and compensation components should connect to this ground, which in turn connects to PGND at one point.", 29 EXTVCC (power) "External VCC Input. When EXTVCC exceeds 4.7V, an internal switch connects this pin to INTVCC and shuts down the internal regulator so that controller and gate drive power is drawn from EXTVCC. Do not exceed 7V at this pin (See Datasheet)", 30 SVIN (power) "Supply Pin for Internal PWM Controller.", 31 INTVCC (power) "Internal 5V Regulator Output. The driver and control circuits are powered from this voltage. Decouple this pin to power ground with a minimum of 4.7uF low ESR tantalum or ceramic capacitor.", 32 INTVCC (power) "Internal 5V Regulator Output. The driver and control circuits are powered from this voltage. Decouple this pin to power ground with a minimum of 4.7uF low ESR tantalum or ceramic capacitor.", 34 PGND (power) "Power Ground. Connect this pin closely to the (-) terminal of CVCC and the (-) terminal of CIN.", 35 PGND (power) "Power Ground. Connect this pin closely to the (-) terminal of CVCC and the (-) terminal of CIN.", 36 PGND (power) "Power Ground. Connect this pin closely to the (-) terminal of CVCC and the (-) terminal of CIN.", 37 PGND (power) "Power Ground. Connect this pin closely to the (-) terminal of CVCC and the (-) terminal of CIN.", 38 PGND (power) "Power Ground. Connect this pin closely to the (-) terminal of CVCC and the (-) terminal of CIN.", 39 PGND (power) "Power Ground. Connect this pin closely to the (-) terminal of CVCC and the (-) terminal of CIN.", 40 PGND (power) "Power Ground. Connect this pin closely to the (-) terminal of CVCC and the (-) terminal of CIN.", 54 SGND (power) "Signal Ground. All small-signal components and compensation components should connect to this ground, which in turn connects to PGND at one point."
part C pins: 9 NC "No Connection.", 21 NC "No Connection.", 24 NC "No Connection.", 25 NC "No Connection.", 28 NC "No Connection."